# Altium schematic symbol library MyLibraryV2.SchLib: 572 symbols (part 11 of 11)
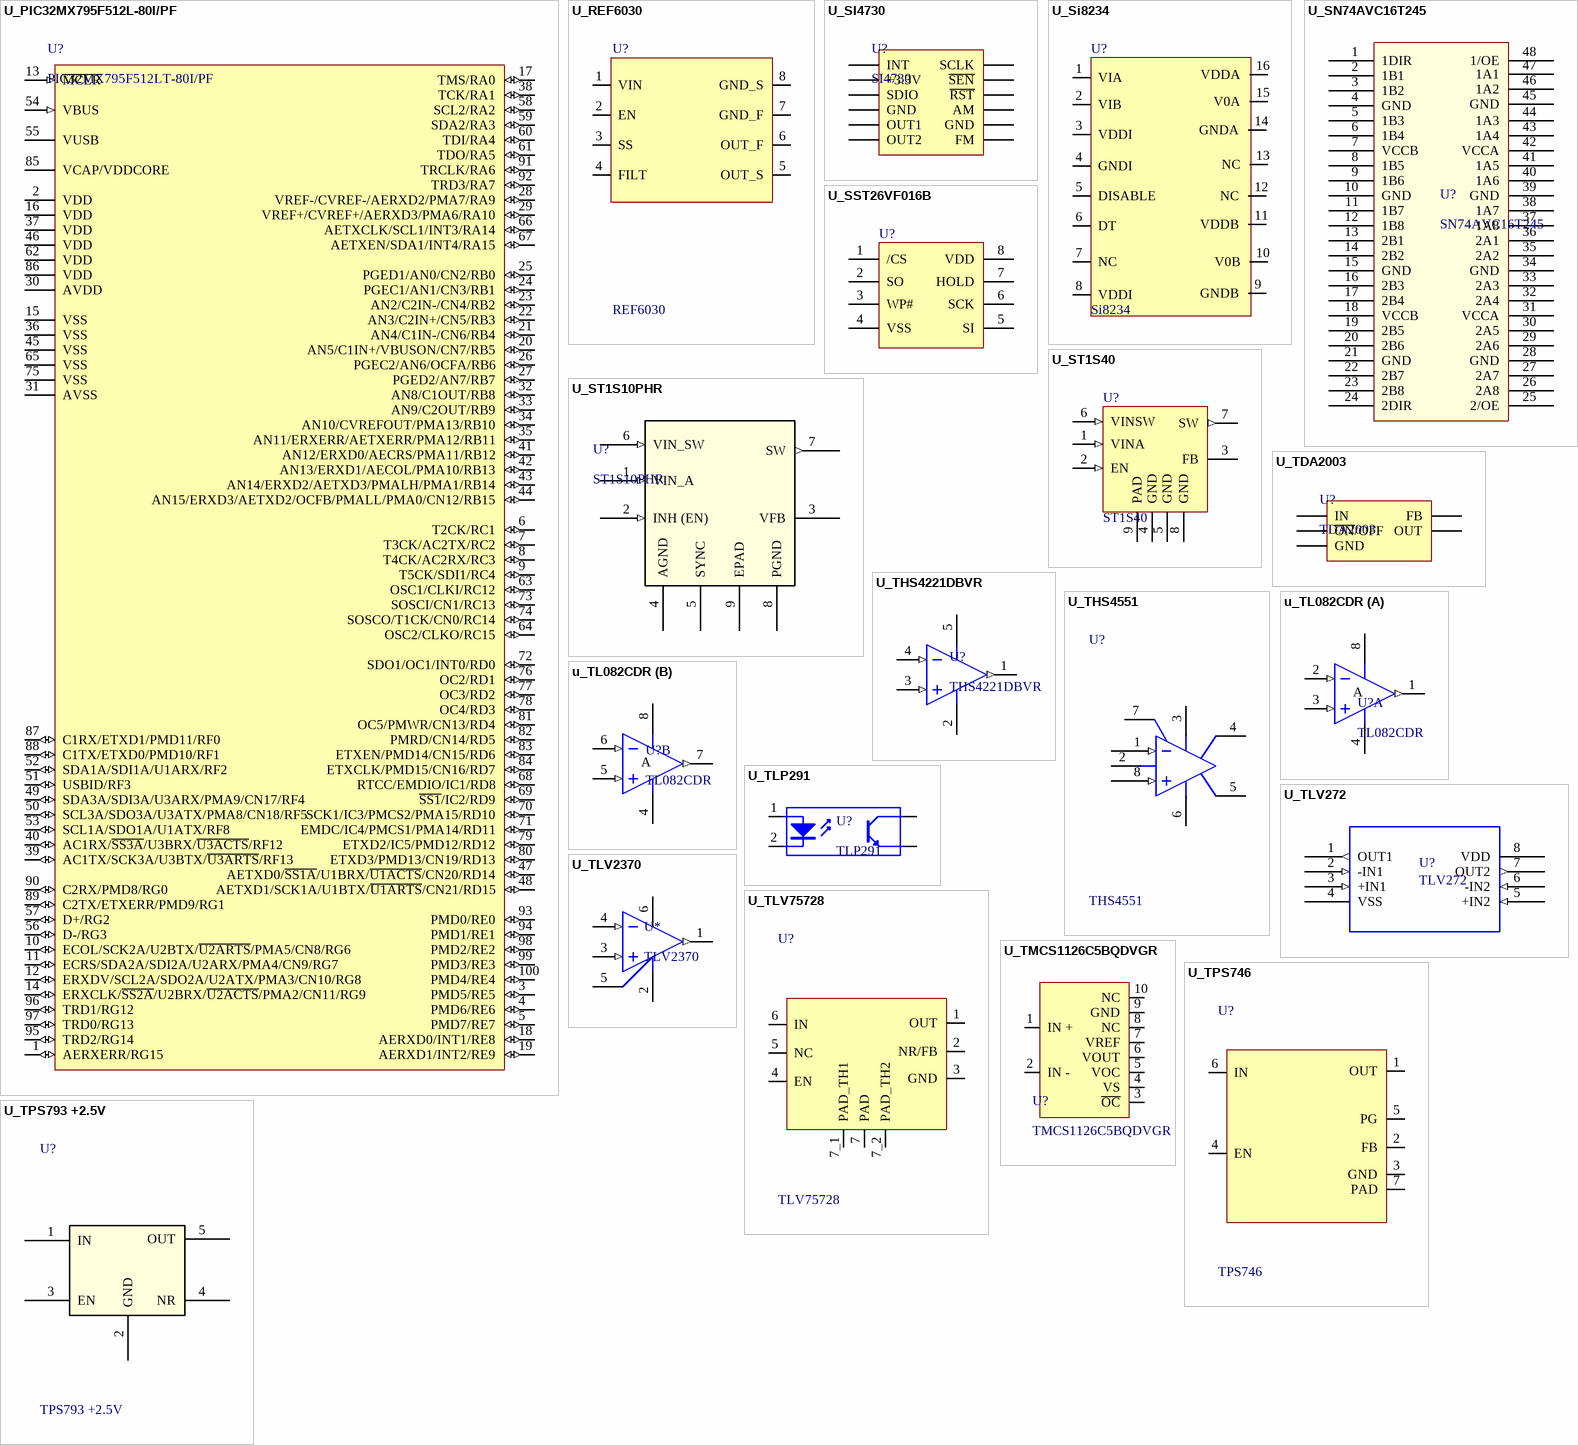
[diagram p26: symbols U_PIC32MX795F512L-80I/PF to U_TPS793 +2.5V]

## U_SN74AVC16T245
designator U?, comment SN74AVC16T245
(Modificar) Integrado; Value: SN74AVC16T245
pins: 1 1DIR, 2 1B1, 3 1B2, 4 GND, 5 1B3, 6 1B4, 7 VCCB, 8 1B5, 9 1B6, 10 GND, 11 1B7, 12 1B8, 13 2B1, 14 2B2, 15 GND, 16 2B3, 17 2B4, 18 VCCB, 19 2B5, 20 2B6, 21 GND, 22 2B7, 23 2B8, 24 2DIR, 25 2/OE, 26 2A8, 27 2A7, 28 GND, 29 2A6, 30 2A5, 31 VCCA, 32 2A4, 33 2A3, 34 GND, 35 2A2, 36 2A1, 37 1A8, 38 1A7, 39 GND, 40 1A6, 41 1A5, 42 VCCA, 43 1A4, 44 1A3, 45 GND, 46 1A2, 47 1A1, 48 1/OE

## U_SST26VF016B
designator U?, comment SST26VF016B  (value not drawn)
(Modificar) Integrado; Value: SST26VF016B
pins: 1 /CS, 2 SO, 3 WP#, 4 VSS, 5 SI, 6 SCK, 7 HOLD, 8 VDD

## U_ST1S10PHR
designator U?, comment ST1S10PHR
(Modificar) Integrado; Value: ST1S10PHR
pins: 1 VIN_A (in), 2 INH (EN) (in), 3 VFB, 4 AGND, 5 SYNC (power), 6 VIN_SW (in), 7 SW (out), 8 PGND (power), 9 EPAD (power)

## U_ST1S40
designator U?, comment ST1S40
IC REG SW STEP-DOWN 3A 8-SOIC; Manufacturer: STMicroelectronics; Manufacturer Part Number: ST1S40IDR; Output Voltage: 18V; Output Current: 4A; Switching Frequency: 850kHz; Number of Outputs: 1; Min Input Voltage: 4V; Min Output Voltage: 800mV; Synchronous Rectifier: Yes; Output Type: Adjustable; Output Configuration: Positive; Value: ST1S40; Mounting Technology: Surface Mount; Case/Package: SOIC; Pins: 8; Min Operating Temperature: -40°C; Max Operating Temperature: 150°C; Packaging: Tape and Reel; Series: -; Operating Supply Voltage: 18V; Max Output current: 4A; Max Supply Voltage: 18V; Max Output Voltage: 18V; Frequency: 850kHz; Radiation Hardening: No; Lead Free: Lead Free; RoHS Compliant: Yes; ComponentLink1URL: https://datasheet.ciiva.com/6603/cd00284753-6603509.pdf?src-supplier=Digikey; ComponentLink1Description: https://datasheet.ciiva.com/6603/cd00284753-6603509.pdf?src-supplier=Digikey; ComponentLink2URL: https://datasheet.ciiva.com/6603/cd00284753-6603510.pdf?src-supplier=Digikey; ComponentLink2Description: https://datasheet.ciiva.com/6603/cd00284753-6603510.pdf?src-supplier=Digikey; ComponentLink3URL: https://datasheet.ciiva.com/4905/cd00284753-4905128.pdf?src-supplier=Mouser; ComponentLink3Description: https://datasheet.ciiva.com/4905/cd00284753-4905128.pdf?src-supplier=Mouser; ComponentLink4URL: https://datasheet.ciiva.com/16226/cd00284753-16226460.pdf?src-supplier=Future+Electronics; ComponentLink4Description: https://datasheet.ciiva.com/16226/cd00284753-16226460.pdf?src-supplier=Future+Electronics; Supplier 1: Mouser; Supplier Part Number 1: 511-ST1S40IDR; RoHS: Yes; Category: Voltage Regulators - Switching; Stock 1: 1462; Pricing 1: 1=2,07, 10=1,76, 50=1,76, 100=1,5, 1000=1,02, 10000=0,867 (USD)
footprint U_SOIC-8_ST1S10PHR (IC REG BUCK ADJ 3A POWERSO-8 Step Down 5V)
pins: 1 VINA (in), 2 EN (in), 3 FB, 4 GND (power), 5 GND (power), 6 VINSW (in), 7 SW (out), 8 GND, 9 PAD (power)

## U_TDA2003
designator U?, comment TDA2003
Value: TDA2003
footprint U_THT_T0-5D
pins: 1 IN, 2 OUT, 3 GND, 4 FB, 5 ~{O}~{N}/OFF

## U_THS4221DBVR
designator U?, comment THS4221DBVR
(Modificar) Integrado; Value: THS4221DBVR
pins: 1 OUT (out), 2 V- (power), 3 IN+ (in), 4 IN- (in), 5 V+ (power)

## U_THS4551
designator U?, comment THS4551
(Modificar) Integrado; Value: THS4551
pins: 1 VIN- (in), 2 VOCM, 3 VS+ (power), 4 VOUT+, 5 VOUT-, 6 VS- (power), 7 /PD, 8 VIN+ (in)

## u_TL082CDR
designator U?, comment TL082CDR
IC OPAMP JFET 3MHZ 8SOIC; Manufacturer: Texas Instruments; Number of Circuits: 2; Voltage Gain: 106.02dB; Operating Supply Voltage: 18V; Min Dual Supply Voltage: 3.5V; Common Mode Rejection Ratio: 70dB; Slew Rate: 13V/µs; Input Offset Voltage (Vos): 15mV; Input Bias Current: 400pA; Operating Supply Current: 1.4mA; Supply Current: 5.6mA; Power Dissipation: 680mW; Value: TL082CDR; Case/Package: D; Pins: 8; Min Operating Temperature: -40°C; Max Operating Temperature: 85°C; Max Dual Supply Voltage: 18V; Package Quantity: 2500; Bandwidth: 3MHz; Number of Channels: 2; Gain Bandwidth Product: 3MHz; Packaging: Tape and Reel; Series: -; Technology: BIFET; Nominal Gain Bandwidth Product: 3MHz; Max I/O Voltage: 15mV; Unity Gain Bandwidth Product: 3MHz; Number of Elements: 2; Number of Amplifiers: 2; Radiation Hardening: No; RoHS Compliant: Yes; Lead Free: Lead Free; Reach SVHC Compliant: No; ComponentLink1URL: https://datasheet.ciiva.com/46444/1846992-46444120.pdf?src-supplier=Element14; ComponentLink1Description: https://datasheet.ciiva.com/46444/1846992-46444120.pdf?src-supplier=Element14; ComponentLink2URL: https://datasheet.ciiva.com/1796/tl081a-1796029.pdf?src-supplier=Digikey; ComponentLink2Description: https://datasheet.ciiva.com/1796/tl081a-1796029.pdf?src-supplier=Digikey; ComponentLink3URL: https://datasheet.ciiva.com/1796/tl081a-1796028.pdf?src-supplier=Digikey; ComponentLink3Description: https://datasheet.ciiva.com/1796/tl081a-1796028.pdf?src-supplier=Digikey; ComponentLink4URL: https://datasheet.ciiva.com/1796/tl081a-1796030.pdf?src-supplier=Digikey; ComponentLink4Description: https://datasheet.ciiva.com/1796/tl081a-1796030.pdf?src-supplier=Digikey; ComponentLink5URL: https://datasheet.ciiva.com/7710/1846992-7710119.pdf?src-supplier=Element14; ComponentLink5Description: https://datasheet.ciiva.com/7710/1846992-7710119.pdf?src-supplier=Element14; ComponentLink6URL: https://datasheet.ciiva.com/2974/tl081a-2974238.pdf?src-supplier=Avnet; ComponentLink6Description: https://datasheet.ciiva.com/2974/tl081a-2974238.pdf?src-supplier=Avnet; Supplier 1: Mouser; Supplier Part Number 1: 595-TL082CDR; Manufacturer Part Number: TL082CDR; RoHS: Yes; Category: Amplifiers - Op Amps, Buffer, Instrumentation; Stock 1: 20049; Pricing 1: 1=0,44, 10=0,342, 50=0,342, 100=0,203, 1000=0,147, 10000=0,115 (USD)
footprint U_SOIC-8_2 (SOIC, 8-Leads, Body 4.9x3.9mm, Pitch 1.27mm, IPC Low Density)
part A pins: 1 OUT1 (out), 2 IN1- (in), 3 IN1+ (in), 4 Vs- (power), 8 Vs+ (power)
part B pins: 4 Vs- (power), 5 IN2+ (in), 6 IN2- (in), 7 OUT2 (out), 8 Vs+ (power)
part A text: A
part B text: A

## U_TLP291
designator U?, comment TLP291
Value: TLP291
footprint U_SO-4 (Optoacoplador SMD 7mm x 2.6mm)
pins: 1 A "Anode", 2 K "Cathode", 3 E "Emitter", 4 C "Collector"

## U_TLV272
designator U?, comment TLV272
(Modificar) Integrado; Value: TLV272
pins: 1 OUT1 (out), 2 -IN1 (in), 3 +IN1 (in), 4 VSS (power), 5 +IN2 (in), 6 -IN2 (in), 7 OUT2 (out), 8 VDD (power)

## U_TLV2370
designator U*, comment TLV2370
OAMP SMD TSOT-23-6; Manufacturer: TI National Semiconductor; Manufacturer Part Number: LMH6611MKE/NOPB; Max Supply Voltage: 11V; Min Supply Voltage: 2.7V; Slew Rate: 460V/µs; Unity Gain Bandwidth Product: 135MHz; Common Mode Rejection Ratio: 81dB; Min Dual Supply Voltage: 1.35V; Max Dual Supply Voltage: 5.5V; Voltage Gain: 103dB; Dual Supply Voltage: 5V; Number of Channels: 1; Output Current: 100mA; Input Bias Current: 6.5uA; Input Offset Voltage (Vos): 74uV; Operating Supply Current: 3.3mA; Output Current per Channel: 120mA; Amplifier Type: GENERAL PURPOSE; Supply Current: 3.2mA; Bandwidth: 345MHz; -3db Bandwidth: 365MHz; Settling Time: 67ns; Mounting Technology: Surface Mount; Case/Package: TSOT; Pins: 6; Min Operating Temperature: -40°C; Max Operating Temperature: 125°C; Packaging: Tape and Reel; Series: PowerWise®; Package Quantity: 250; Number of Circuits: 1; Gain Bandwidth Product: 135MHz; Number of Elements: 1; Power Supply Rejection Ratio (PSRR): 81dB; Max Output current: 100mA; Number of Amplifiers: 1; Length: 2.97mm; Width: 1.65mm; Height: 0.87mm; Reach SVHC Compliant: No; Lead Free: Lead Free; RoHS Compliant: Yes; ComponentLink1URL: https://datasheet.ciiva.com/6629/lmh6611-6629638.pdf?src-supplier=Digikey; ComponentLink1Description: https://datasheet.ciiva.com/6629/lmh6611-6629638.pdf?src-supplier=Digikey; ComponentLink2URL: https://datasheet.ciiva.com/6629/lmh6611-6629639.pdf?src-supplier=Digikey; ComponentLink2Description: https://datasheet.ciiva.com/6629/lmh6611-6629639.pdf?src-supplier=Digikey; ComponentLink3URL: https://datasheet.ciiva.com/6629/lmh6611-6629640.pdf?src-supplier=Digikey; ComponentLink3Description: https://datasheet.ciiva.com/6629/lmh6611-6629640.pdf?src-supplier=Digikey; ComponentLink4URL: https://datasheet.ciiva.com/48709/001010969-da-01-en-ic-amp-345mhz-lmh6611mke-nopb-sot-6-tid-48709436.pdf?src-supplier=Conrad; ComponentLink4Description: https://datasheet.ciiva.com/48709/001010969-da-01-en-ic-amp-345mhz-lmh6611mke-nopb-sot-6-tid-48709436.pdf?src-supplier=Conrad; Supplier 1: Mouser; Supplier Part Number 1: 926-LMH6611MKE/NOPB; RoHS: Yes; Category: Amplifiers - Op Amps, Buffer, Instrumentation; Stock 1: 1318; Pricing 1: 1=2,47, 10=2,11, 50=2,11, 100=1,81, 1000=1,24, 10000=1,11 (USD); Value: TLV2370
footprint U_SOT-23-6 -TLV2472
pins: 1 OUT (out), 2 V- (power), 3 IN+ (in), 4 IN- (in), 5 ~DIS (power), 6 V+ (power)

## U_TLV75728
designator U?, comment TLV75728
(Modificar) Integrado; Value: TLV75728
pins: 1 OUT, 2 NR/FB, 3 GND, 4 EN, 5 NC, 6 IN, 7 PAD, 7_1 PAD_TH1, 7_2 PAD_TH2

## U_TMCS1126C5BQDVGR
designator U?, comment TMCS1126C5BQDVGR
80ARMS 500kHz Hall-effect current sensor with AFR, reference and ALERT 10-SOIC -40 to 125; Manufacturer: Texas Instruments; Value: TMCS1126C5BQDVGR; Supplier 1: Mouser; Supplier Part Number 1: 595-TMCS1126C5BQDVGR; Manufacturer Part Number: TMCS1126C5BQDVGR; Stock 1: 2000; Pricing 1: 1=5,14, 10=3,86, 50=3,86, 100=3,14, 1000=2,46, 10000=2,37 (USD)
footprint U_soic_10_TMCS1126A8AQDVGRQ1
pins: 1 IN + (power), 2 IN - (power), 3 ~{OC}, 4 VS, 5 VOC, 6 VOUT, 7 VREF, 8 NC, 9 GND, 10 NC

## U_TPS746
designator U?, comment TPS746
(Modificar) Integrado; Value: TPS746
pins: 1 OUT, 2 FB, 3 GND, 4 EN, 5 PG, 6 IN, 7 PAD

## U_TPS793 +2.5V
designator U?, comment TPS793 +2.5V
(Modificar) Integrado; Value: TPS793 +2.5V
pins: 1 IN, 2 GND (power), 3 EN, 4 NR, 5 OUT

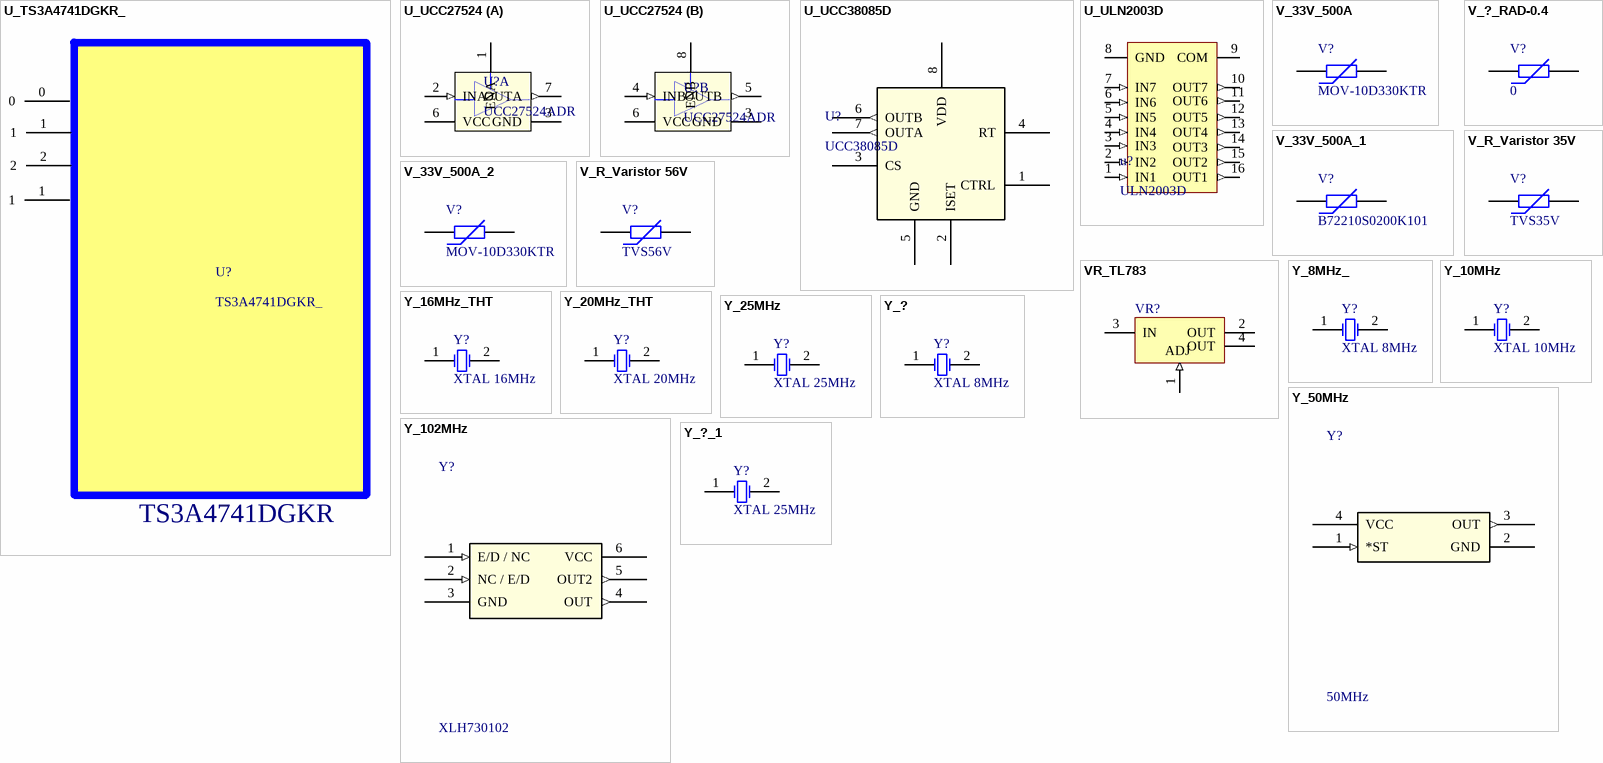
[diagram p16: symbols U_TS3A4741DGKR_ to Y_?_1]

## U_TS3A4741DGKR_
designator U?, comment TS3A4741DGKR_
(Modificar) Integrado; Value: TS3A4741DGKR_
pins: 0, 1, 1, 2
text: TS3A4741DGKR

## U_UCC27524
designator U?, comment UCC27524ADR
Gate Driver SMD 8-SOIC; Manufacturer: Texas Instruments; Rise Time: 7ns; Output Current: 5A; Max Supply Voltage: 18V; Min Supply Voltage: 4.5V; Number of Outputs: 2; Channel Type: Independent; Supply Current: 110uA; Mounting Technology: Surface Mount; Case/Package: SOIC; Pins: 8; Min Operating Temperature: -40°C; Max Operating Temperature: 140°C; Packaging: Tape and Reel; Package Quantity: 2500; Number of Drivers: 2; Fall Time: 7ns; Max Output current: 5A; Number of Channels: 2; Series: -; Lead Free: Lead Free; RoHS Compliant: Yes; ComponentLink1URL: http://www.mouser.com/ds/2/405/ucc27524a-451335.pdf?src-supplier=Mouser; ComponentLink1Description: http://www.mouser.com/ds/2/405/ucc27524a-451335.pdf?src-supplier=Mouser; ComponentLink2URL: http://www.ti.com/general/docs/suppproductinfo.tsp?distId=10&amp;gotoUrl=http%3A%2F%2Fwww.ti.com%2Flit%2Fgpn%2Fucc27524a&src-supplier=Digikey; ComponentLink2Description: http://www.ti.com/general/docs/suppproductinfo.tsp?distId=10&amp;gotoUrl=http%3A%2F%2Fwww.ti.com%2Flit%2Fgpn%2Fucc27524a&src-supplier=Digikey; Supplier 1: Mouser; Supplier Part Number 1: 595-UCC27524ADR; Manufacturer Part Number: UCC27524ADR; RoHS: Yes; Category: Gate Drivers; Stock 1: 4236; Pricing 1: 1=1,37, 10=1,18, 50=1,18, 100=0,902, 1000=0,619, 10000=0,517 (USD); Value: UCC27524ADR
footprint U_SOIC-8_2 (SOIC, 8-Leads, Body 4.9x3.9mm, Pitch 1.27mm, IPC Low Density)
part A pins: 1 ENA (power), 2 INA (in), 3 GND (power), 6 VCC (power), 7 OUTA (out)
part B pins: 3 GND (power), 4 INB (in), 5 OUTB (out), 6 VCC (power), 8 ENB (power)

## U_UCC38085D
designator U?, comment UCC38085D
Current Mode PWM Controller 1A 50kHz to 1000kHz 8-Pin SOIC Tube; Manufacturer: Texas Instruments; Rise Time: 25ns; Number of Outputs: 2; Switching Frequency: 1MHz; Duty Cycle: 50%; Output Voltage: 500mV; Topology: Push-Pull; Max Supply Voltage: 15V; Case/Package: D; Pins: 8; Weight: 0.002561oz; Min Operating Temperature: 0°C; Max Operating Temperature: 70°C; Output Current: 1A; Packaging: Rail/Tube; Package Quantity: 75; Max Duty Cycle: 50%; Fall Time: 25ns; Series: -; Clock Frequency: 1MHz; Radiation Hardening: No; Lead Free: Lead Free; RoHS Compliant: Yes; ComponentLink1URL: https://datasheet.ciiva.com/2015/ucc28083-2015781.pdf?src-supplier=Digikey; ComponentLink1Description: https://datasheet.ciiva.com/2015/ucc28083-2015781.pdf?src-supplier=Digikey; ComponentLink2URL: https://datasheet.ciiva.com/14265/ucc38083-14265486.pdf?src-supplier=Avnet; ComponentLink2Description: https://datasheet.ciiva.com/14265/ucc38083-14265486.pdf?src-supplier=Avnet; Supplier 1: Mouser; Supplier Part Number 1: 595-UCC38085D; Manufacturer Part Number: UCC38085D; RoHS: Yes; Category: Voltage Regulators - Switching; Stock 1: 93; Pricing 1: 1=2,75, 10=2,47, 50=2,47, 100=2,02, 1000=1,72, 10000=1,33 (USD); Value: UCC38085D
footprint U_SOIC-8_2 (SOIC, 8-Leads, Body 4.9x3.9mm, Pitch 1.27mm, IPC Low Density)
pins: 1 CTRL, 2 ISET, 3 CS, 4 RT, 5 GND (power), 6 OUTB (out), 7 OUTA (out), 8 VDD (power)

## U_ULN2003D
designator u?, comment ULN2003D
Seven NPN 500 mA 50 V SMT Darlington Transistor Array - SOIC-16; Manufacturer: ON Semiconductor; Manufacturer Part Number: ULN2003ADR2G; Number of Elements: 7; hFE Min: 1000; Max Collector Current: 500mA; Collector Emitter Breakdown Voltage: 50V; Collector Emitter Saturation Voltage: 1.6V; Value: ULN2003D; Mounting Technology: Surface Mount; Case/Package: SOIC; Pins: 16; Min Operating Temperature: -20°C; Max Operating Temperature: 85°C; Polarity: NPN; Packaging: Tape and Reel; Package Quantity: 2500; Collector Emitter Voltage (VCEO): 50V; Series: -; Collector-emitter Voltage-Max: 1.6V; Max Breakdown Voltage: 50V; Length: 10mm; Width: 4mm; Height: 1.5mm; Radiation Hardening: No; RoHS Compliant: Yes; Reach SVHC Compliant: No; Lead Free: Lead Free; Halogen Free: Halogen Free; ComponentLink1URL: https://datasheet.ciiva.com/1258/uln2003a-d-1258592.pdf?src-supplier=Newark; ComponentLink1Description: https://datasheet.ciiva.com/1258/uln2003a-d-1258592.pdf?src-supplier=Newark; ComponentLink2URL: https://datasheet.ciiva.com/1193/uln2003a-d-1193942.pdf?src-supplier=Element14; ComponentLink2Description: https://datasheet.ciiva.com/1193/uln2003a-d-1193942.pdf?src-supplier=Element14; ComponentLink3URL: https://datasheet.ciiva.com/11211/uln2003a-d-11211227.pdf?src-supplier=Avnet; ComponentLink3Description: https://datasheet.ciiva.com/11211/uln2003a-d-11211227.pdf?src-supplier=Avnet; Supplier 1: Mouser; Supplier Part Number 1: 863-ULN2003ADR2G; RoHS: Yes; Category: Integrated Circuits (ICs); Stock 1: 71953; Pricing 1: 1=0,78, 10=0,623, 50=0,623, 100=0,467, 1000=0,333, 10000=0,26 (USD)
footprint U_DO-16
pins: 1 IN1 (in), 2 IN2 (in), 3 IN3 (in), 4 IN4 (in), 5 IN5 (in), 6 IN6 (in), 7 IN7 (in), 8 GND (power), 9 COM, 10 OUT7 (out), 11 OUT6 (out), 12 OUT5 (out), 13 OUT4 (out), 14 OUT3 (out), 15 OUT2 (out), 16 OUT1 (out)

## V_33V_500A
designator V?, comment MOV-10D330KTR
Varistor RAD-0.4; Manufacturer: Bourns; Max Surge Current: 500A; Voltage Rating (DC): 36V; Tolerance: 10%; Max Voltage Rating (DC): 26V; Clamping Voltage: 65V; Number of Circuits: 1; Max Voltage Rating (AC): 20V; Energy: 4J; Clamping Current: 5A; Min Varistor Voltage: 30V; Varistor Voltage: 33V; Mounting Technology: Radial,Through Hole; Case/Package: Radial; Min Operating Temperature: -40°C; Max Operating Temperature: 85°C; Packaging: Tape and Reel; Package Quantity: 1000; Max Varistor Voltage: 36V; Series: -; Diameter: 10mm; Width: 7.2mm; Radiation Hardening: No; RoHS Compliant: Yes; ComponentLink1URL: https://datasheet.ciiva.com/369/mov10d-369317.pdf?src-supplier=Digikey; ComponentLink1Description: https://datasheet.ciiva.com/369/mov10d-369317.pdf?src-supplier=Digikey; ComponentLink2URL: https://datasheet.ciiva.com/3026/mov10d-3026296.pdf?src-supplier=Avnet; ComponentLink2Description: https://datasheet.ciiva.com/3026/mov10d-3026296.pdf?src-supplier=Avnet; ComponentLink3URL: https://datasheet.ciiva.com/29659/mov10d-29659037.pdf?src-supplier=Digikey; ComponentLink3Description: https://datasheet.ciiva.com/29659/mov10d-29659037.pdf?src-supplier=Digikey; Supplier 1: Mouser; Supplier Part Number 1: 652-MOV-10D330KTR; Manufacturer Part Number: MOV-10D330KTR; RoHS: Yes; Category: Varistors; Stock 1: 3600; Pricing 1: 1=0,39, 10=0,292, 50=0,292, 100=0,197, 1000=0,122, 10000=0,098 (USD); Value: MOV-10D330KTR
footprint V_RAD-0.4_Varistor_3D_FMF_ACTUAL (Radial Cap, Thru-Hole; 2 Leads; 0.4 in Pin Spacing)
pins: 1, 2

## V_33V_500A_1
designator V?, comment B72210S0200K101
Varistor RAD-0.4; Manufacturer: TDK EPCOS; Clamping Voltage: 65V; Energy: 3.1J; Voltage Tolerance: 10%; Varistor Voltage: 33V; Number of Circuits: 1; Voltage Rating (AC): 20V; Voltage Rating (DC): 26V; Max Surge Current: 500A; Clamping Current: 5A; Lead/Base Style: Radial; Min Varistor Voltage: 29.7V; Max Varistor Voltage: 36.3V; Lead Length: 30mm; Mounting Technology: Through Hole,Radial; Case/Package: Metal; Weight: 0.070548oz; Min Operating Temperature: -40°C; Max Operating Temperature: 85°C; Series: Standard; Tolerance: 10%; Packaging: Bulk; Max Voltage Rating (AC): 20V; Max Voltage Rating (DC): 26V; Package Quantity: 500; Diameter: 10mm; Lead Pitch: 7.5mm; Depth: 4.5mm; Thickness: 4.5mm; Reach SVHC Compliant: No; RoHS Compliant: Yes; ComponentLink1URL: https://datasheet.ciiva.com/11834/0900766b80188ddb-11834457.pdf?src-supplier=Rs; ComponentLink1Description: https://datasheet.ciiva.com/11834/0900766b80188ddb-11834457.pdf?src-supplier=Rs; ComponentLink2URL: https://datasheet.ciiva.com/1277/1899727-1277900.pdf?src-supplier=Element14; ComponentLink2Description: https://datasheet.ciiva.com/1277/1899727-1277900.pdf?src-supplier=Element14; Supplier 1: Mouser; Supplier Part Number 1: 871-B72210S200K101; Manufacturer Part Number: B72210S0200K101; RoHS: Yes; Category: Varistors; Stock 1: 5300; Pricing 1: 1=0,51, 10=0,379, 50=0,379, 100=0,256, 1000=0,158, 10000=0,127 (USD); Value: B72210S0200K101
footprint V_RAD-0.4 - Varistor 3D_FMF_ACTUAL (Radial Cap, Thru-Hole; 2 Leads; 0.4 in Pin Spacing)
pins: 1, 2

## V_33V_500A_2
designator V?, comment MOV-10D330KTR
Varistor RAD-0.2; Manufacturer: Bourns; Max Surge Current: 500A; Voltage Rating (DC): 36V; Tolerance: 10%; Max Voltage Rating (DC): 26V; Clamping Voltage: 65V; Number of Circuits: 1; Max Voltage Rating (AC): 20V; Energy: 4J; Clamping Current: 5A; Min Varistor Voltage: 30V; Varistor Voltage: 33V; Mounting Technology: Radial,Through Hole; Case/Package: Radial; Min Operating Temperature: -40°C; Max Operating Temperature: 85°C; Packaging: Tape and Reel; Package Quantity: 1000; Max Varistor Voltage: 36V; Series: -; Diameter: 10mm; Width: 7.2mm; Radiation Hardening: No; RoHS Compliant: Yes; ComponentLink1URL: https://datasheet.ciiva.com/369/mov10d-369317.pdf?src-supplier=Digikey; ComponentLink1Description: https://datasheet.ciiva.com/369/mov10d-369317.pdf?src-supplier=Digikey; ComponentLink2URL: https://datasheet.ciiva.com/3026/mov10d-3026296.pdf?src-supplier=Avnet; ComponentLink2Description: https://datasheet.ciiva.com/3026/mov10d-3026296.pdf?src-supplier=Avnet; ComponentLink3URL: https://datasheet.ciiva.com/29659/mov10d-29659037.pdf?src-supplier=Digikey; ComponentLink3Description: https://datasheet.ciiva.com/29659/mov10d-29659037.pdf?src-supplier=Digikey; Supplier 1: Mouser; Supplier Part Number 1: 652-MOV-10D330KTR; Manufacturer Part Number: MOV-10D330KTR; RoHS: Yes; Category: Varistors; Stock 1: 3600; Pricing 1: 1=0,39, 10=0,292, 50=0,292, 100=0,197, 1000=0,122, 10000=0,098 (USD); Value: MOV-10D330KTR
footprint V_Rad_0.2
pins: 1, 2

## V_?_RAD-0.4
designator V?, comment 0
(Modificar) Varistor RAD-0.4; Value: 0
footprint V_RAD-0.4 - Varistor 3D_FMF_ACTUAL (Radial Cap, Thru-Hole; 2 Leads; 0.4 in Pin Spacing)
pins: 1, 2

## V_R_Varistor 35V
designator V?, comment TVS35V
(Modificar) Varistor; Value: TVS35V
pins: 1, 2

## V_R_Varistor 56V
designator V?, comment TVS56V
(Modificar) Varistor; Value: TVS56V
pins: 1, 2

## VR_TL783
designator VR?, comment TL783  (value not drawn)
(Modificar); Value: TL783
pins: 1 ADJ (in), 2 OUT, 3 IN, 4 OUT

## Y_8MHz_
designator Y?, comment XTAL 8MHz
Crystal SMD 5x3.2; Manufacturer: TXC; Manufacturer Part Number: AA-8.000MALV-T; Tolerance: 30ppm; Load Capacitance: 8pF; ESR (Equivalent Series Resistance): 150R; Frequency Stability: 150ppm; Mounting Technology: Surface Mount; Case/Package: SMD/SMT; Pins: 2; Min Operating Temperature: -40°C; Max Operating Temperature: 125°C; Packaging: Tape and Reel; Frequency: 8MHz; Frequency Tolerance: 30ppm; Package Quantity: 1000; Termination: SMD/SMT; Series: AA; Ratings: AEC-Q200; Reach SVHC Compliant: No; ComponentLink1URL: https://datasheet.ciiva.com/12387/number-crystal-automotive-10947-12387631.pdf?src-supplier=Mouser; ComponentLink1Description: https://datasheet.ciiva.com/12387/number-crystal-automotive-10947-12387631.pdf?src-supplier=Mouser; ComponentLink2URL: https://datasheet.ciiva.com/6729/aa-automotive-6729258.pdf?src-supplier=Digikey; ComponentLink2Description: https://datasheet.ciiva.com/6729/aa-automotive-6729258.pdf?src-supplier=Digikey; ComponentLink3URL: https://datasheet.ciiva.com/6729/aa-automotive-6729259.pdf?src-supplier=Digikey; ComponentLink3Description: https://datasheet.ciiva.com/6729/aa-automotive-6729259.pdf?src-supplier=Digikey; ComponentLink4URL: https://datasheet.ciiva.com/6729/aa-automotive-6729260.pdf?src-supplier=Digikey; ComponentLink4Description: https://datasheet.ciiva.com/6729/aa-automotive-6729260.pdf?src-supplier=Digikey; ComponentLink5URL: https://datasheet.ciiva.com/46395/1817583-46395989.pdf?src-supplier=Element14; ComponentLink5Description: https://datasheet.ciiva.com/46395/1817583-46395989.pdf?src-supplier=Element14; ComponentLink6URL: https://datasheet.ciiva.com/8047/1811860-8047941.pdf?src-supplier=Element14; ComponentLink6Description: https://datasheet.ciiva.com/8047/1811860-8047941.pdf?src-supplier=Element14; Supplier 1: Mouser; Supplier Part Number 1: 717-AA-8.000MALV-T; RoHS: Yes; Category: Crystals; Stock 1: 5421; Pricing 1: 1=0,82, 10=0,681, 50=0,681, 100=0,596, 1000=0,471, 10000=0,431 (USD); Value: XTAL 8MHz
footprint Y_SMD_5x3.2 (5x3.2)
pins: 1 OSC1, 2 OSC2

## Y_10MHz
designator Y?, comment XTAL 10MHz
Crystal SMD 12.7x4.7; Manufacturer: Abracon; Manufacturer Part Number: ABLS-10.000MHZ-20-B-3-H-T; ComponentLink1URL: https://abracon.com/Resonators/abls.pdf?src-supplier=Digikey; ComponentLink1Description: https://abracon.com/Resonators/abls.pdf?src-supplier=Digikey; RoHS: Yes; Category: Crystals; Stock 1: 3424; Pricing 1: 1=0,2, 10=0,17, 50=0,1528, 100=0,1359, 500=0,1291 (USD); Supplier 1: Digikey; Supplier Part Number 1: 535-14861-1-ND; Value: XTAL 10MHz
footprint Y_SMD_XTAL
pins: 1 OSC1, 2 OSC2

## Y_16MHz_THT
designator Y?, comment XTAL 16MHz
(Generico) Crystal THT; Value: XTAL 16MHz
footprint Y_THT_XTAL
pins: 1 OSC1, 2 OSC2

## Y_20MHz_THT
designator Y?, comment XTAL 20MHz
(Generico) Crystal THT; Value: XTAL 20MHz
footprint Y_THT_XTAL
pins: 1 OSC1, 2 OSC2

## Y_25MHz
designator Y?, comment XTAL 25MHz
Crystal SMD 7.6x4.1; Manufacturer: ECS International; Manufacturer Part Number: ECS-250-20-3X-EN-TR; Frequency Tolerance: 30ppm; Load Capacitance: 20pF; ESR (Equivalent Series Resistance): 50R; Frequency Stability: 50ppm; Mounting Technology: Surface Mount; Min Operating Temperature: -40°C; Max Operating Temperature: 85°C; Package Quantity: 3000; Frequency: 25MHz; Packaging: Tape and Reel; Tolerance: 30ppm; Termination: SMD/SMT; Series: CSM-3X; Length: 7.6mm; Width: 4.1mm; Height: 2.3mm; Lead Free: Lead Free; ComponentLink1URL: https://datasheet.ciiva.com/852/csm-3x-852536.pdf?src-supplier=Digikey; ComponentLink1Description: https://datasheet.ciiva.com/852/csm-3x-852536.pdf?src-supplier=Digikey; ComponentLink2URL: https://datasheet.ciiva.com/852/csm-3x-852537.pdf?src-supplier=Digikey; ComponentLink2Description: https://datasheet.ciiva.com/852/csm-3x-852537.pdf?src-supplier=Digikey; ComponentLink3URL: https://datasheet.ciiva.com/852/csm-3x-852538.pdf?src-supplier=Digikey; ComponentLink3Description: https://datasheet.ciiva.com/852/csm-3x-852538.pdf?src-supplier=Digikey; Supplier 1: Mouser; Supplier Part Number 1: 520-250-20-3XENT; RoHS: Yes; Category: Crystals; Stock 1: 4128; Pricing 1: 1=0,41, 10=0,311, 50=0,311, 100=0,272, 1000=0,218, 10000=0,193 (USD); Value: XTAL 25MHz
footprint Y_SMD_ECS CSM-3X (Crystal, 2-Leads, Body 4.10x7.00mm, Pitch 5.00mm, IPC Medium Density)
pins: 1 OSC1, 2 OSC2

## Y_50MHz
designator Y?, comment 50MHz
Crystal SMD 4; Manufacturer: Abracon; Manufacturer Part Number: ASFL1-50.000MHZ-EC-T; Operating Supply Voltage: 3.3V; Load Capacitance: 15pF; Max Supply Voltage: 3.63V; Min Supply Voltage: 2.97V; Max Supply Current: 45mA; Frequency Stability: 50ppm; Mounting Technology: Surface Mount; Case/Package: SMD/SMT; Pins: 4; Min Operating Temperature: -20°C; Max Operating Temperature: 70°C; Packaging: Tape and Reel; Frequency: 50MHz; Series: ASFL1; Operating Frequency: 50 MHz; Length: 5mm; Depth: 3.2mm; Radiation Hardening: No; Lead Free: Lead Free; RoHS Compliant: Yes; ComponentLink1URL: https://datasheet.ciiva.com/866/asfl1-866023.pdf?src-supplier=Digikey; ComponentLink1Description: https://datasheet.ciiva.com/866/asfl1-866023.pdf?src-supplier=Digikey; ComponentLink2URL: https://datasheet.ciiva.com/866/asfl1-866022.pdf?src-supplier=Digikey; ComponentLink2Description: https://datasheet.ciiva.com/866/asfl1-866022.pdf?src-supplier=Digikey; ComponentLink3URL: https://datasheet.ciiva.com/866/asfl1-866024.pdf?src-supplier=Digikey; ComponentLink3Description: https://datasheet.ciiva.com/866/asfl1-866024.pdf?src-supplier=Digikey; ComponentLink4URL: https://datasheet.ciiva.com/9312/asfl1-9312743.pdf?src-supplier=Avnet; ComponentLink4Description: https://datasheet.ciiva.com/9312/asfl1-9312743.pdf?src-supplier=Avnet; ComponentLink5URL: https://datasheet.ciiva.com/16494/asfl1-16494149.pdf?src-supplier=Future+Electronics; ComponentLink5Description: https://datasheet.ciiva.com/16494/asfl1-16494149.pdf?src-supplier=Future+Electronics; Supplier 1: Mouser; Supplier Part Number 1: 815-ASFL1-50.0-EC-T; RoHS: Yes; Category: Oscillators; Stock 1: 13270; Pricing 1: 1=1,7, 10=1,62, 50=1,62, 100=1,36, 500=1,21, 1000=1,11, 2000=1,08, 10000=1,08 (USD); Value: 50MHz
footprint Y_SMD-SG5032
pins: 1 *ST (in), 2 GND (power), 3 OUT (out), 4 VCC

## Y_102MHz
designator Y?, comment XLH730102
Crystal SMD XLH730102; Manufacturer: Renesas; Manufacturer Part Number: XLH730102.000000X; ComponentLink1URL: https://www.idt.com/document/dst/xl-family-low-phase-noise-quartz-based-pll-oscillators-datasheet?src-supplier=Digikey; ComponentLink1Description: https://www.idt.com/document/dst/xl-family-low-phase-noise-quartz-based-pll-oscillators-datasheet?src-supplier=Digikey; Supplier 1: Mouser; Supplier Part Number 1: 972-LH730102.000000X; RoHS: No; Stock 1: 234; Pricing 1: 1=2,19, 10=2,08, 50=2,04, 100=1,75, 1000=1,39, 10000=1,39 (USD); Value: XLH730102
footprint Y_SMD_XLH730102
pins: 1 E/D / NC (in), 2 NC / E/D (in), 3 GND (power), 4 OUT (out), 5 OUT2 (out), 6 VCC

## Y_?
designator Y?, comment XTAL 8MHz
(Generico) Crystal SMD; Value: XTAL 8MHz
footprint Y_SMD_XTAL
pins: 1 OSC1, 2 OSC2

## Y_?_1
designator Y?, comment XTAL 25MHz
(Generico) Cristal SMD; Value: XTAL 25MHz
footprint Y_SMD_ECS CSM-3X (Crystal, 2-Leads, Body 4.10x7.00mm, Pitch 5.00mm, IPC Medium Density)
pins: 1 OSC1, 2 OSC2